# EAGLE library part TPS61046YFFR (library TPS61046YFFR)
28-V Output Voltage Boost Converter in WCSP Package Source: Datasheet <http://www.ti.com/lit/gpn/tps61046>
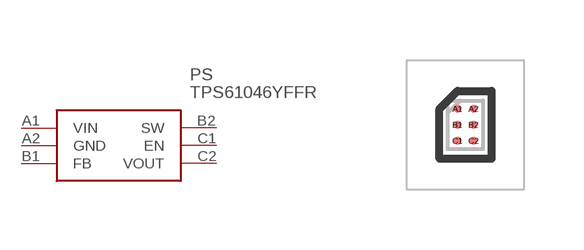
[diagram p0: symbol with the pads of BGA6C40P2X3_88X123X62; footprint BGA6C40P2X3_88X123X62]

Designator prefix PS

## TPS61046YFFR (Description: 28-V Output Voltage Boost Converter in WCSP Package; Height: 0.625mm; Manufacturer_Name: Texas Instruments; Manufacturer_Part_Number: TPS61046YFFR; Mouser_Part_Number: 595-TPS61046YFFR; Mouser_Price-Stock: https://www.mouser.co.uk/ProductDetail/Texas-Instruments/TPS61046YFFR?qs=MiqG6Kq1qKNwq3TLqYBDaw%3D%3D)  [BGA6C40P2X3_88X123X62]
A1  VIN  pwr
A2  GND  pwr
B1  FB  in
B2  SW
C1  EN  in
C2  VOUT  pwr

## Footprint BGA6C40P2X3_88X123X62 (pad centres in mm)
WCSP
smd 0.2 x 0.2: A1 -0.2,0.4; A2 0.2,0.4; B1 -0.2,0; B2 0.2,0; C1 -0.2,-0.4; C2 0.2,-0.4